# Altium footprint library Common.PcbLib: 60 footprints (part 1 of 4)
Each footprint in its own frame and in the unit in brackets; x right, y up, seen from the top. Pads: shape width x height; smd on the part's side, far side on the other; paste and mask are expansions set on the pad; w line width, h text height; cw(c..) or ccw(c..) is an arc to the next point about the centre after c.
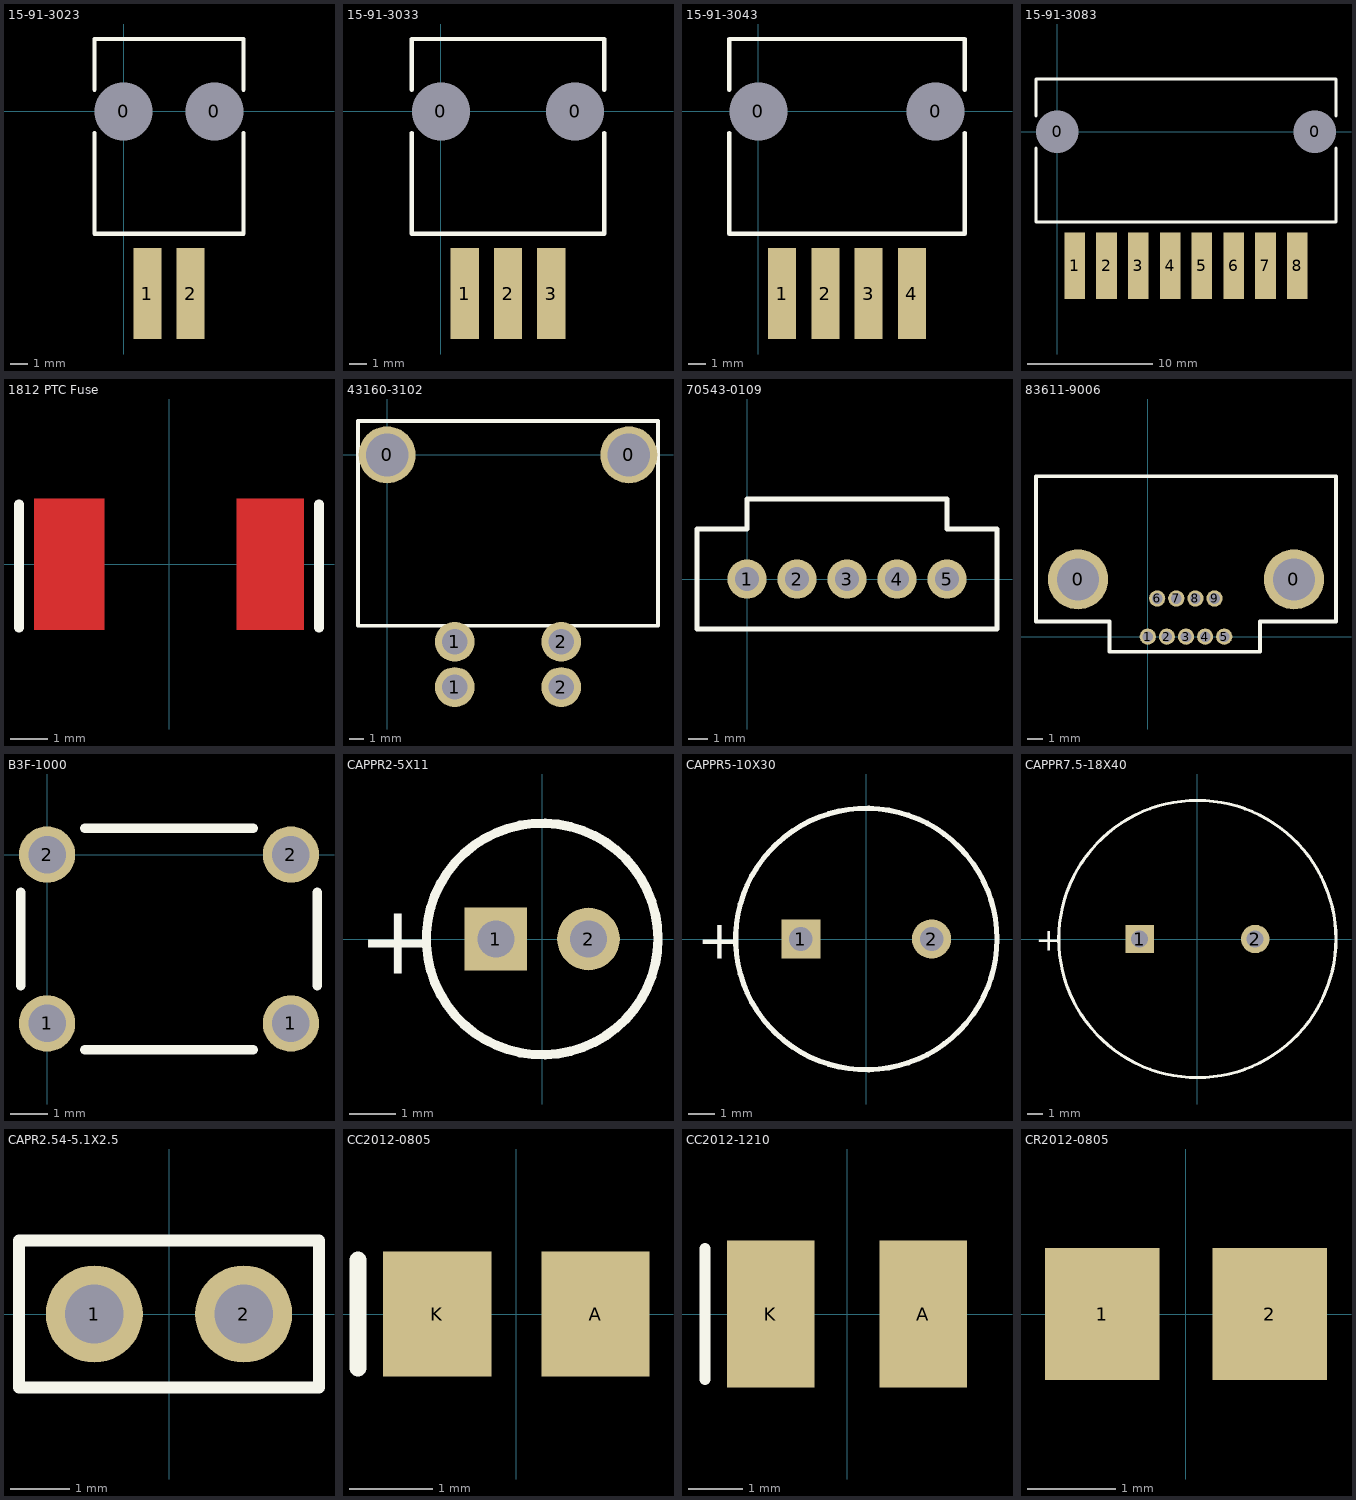
[diagram p0: the footprints below, top view; thin cyan lines are the x and y axes]

## 15-91-3023 [mil]
pads (4):
  round 67 hole 134: 0(0,0) 0(210,0)
  rect 65x210 smd: 1(55,-421) 2(155,-421)
Top Overlay:
  lines w10: -67,-50 -67,-283 277,-283 277,-50 ; -67,50 -67,167 277,167 277,50

## 15-91-3033 [mil]
pads (5):
  round 67 hole 134: 0(0,0) 0(310,0)
  rect 65x210 smd: 1(55,-421) 2(155,-421) 3(255,-421)
Top Overlay:
  lines w10: -67,-50 -67,-283 377,-283 377,-50 ; -67,50 -67,167 377,167 377,50

## 15-91-3043 [mil]
pads (6):
  round 67 hole 134: 0(0,0) 0(410,0)
  rect 65x210 smd: 1(55,-421) 2(155,-421) 3(255,-421) 4(355,-421)
Top Overlay:
  lines w10: -67,-50 -67,-283 477,-283 477,-50 ; -67,50 -67,167 477,167 477,50

## 15-91-3083 [mil]
pads (10):
  round 67 hole 134: 0(0,0) 0(810,0)
  rect 65x210 smd: 1(55,-421) 2(155,-421) 3(255,-421) 4(355,-421) 5(455,-421) 6(555,-421) 7(655,-421) 8(755,-421)
Top Overlay:
  lines w10: -67,-50 -67,-283 877,-283 877,-50 ; -67,50 -67,167 877,167 877,50

## 1812 PTC Fuse [mm] "1812 1.1A Hold, 1.95A Trip Bel Fuse"
height 1
Top Layer:
  rectangle: 1.8,-1.75 3.6,1.75
  rectangle: -3.6,-1.75 -1.725,1.75
Top Overlay:
  lines w0.254: -4,-1.7 -4,1.6 ; 4,-1.7 4,1.6
Top Solder:
  rectangle: 1.75,-1.78 3.64,1.79
  rectangle: -3.64,-1.78 -1.7,1.79

## 43160-3102 [mm]
pads (6):
  round 4 hole 3: 0(0,0) 0(16.99,0)
  round 2.8 hole 1.78: 1(4.75,-16.31) 1(4.75,-13.13) 2(12.24,-16.31) 2(12.24,-13.13)
Top Overlay:
  lines w0.254: -2.045,-12 -2.045,2.38 19.035,2.38 19.035,-12 -2.045,-12

## 70543-0109 [mm]
pads (5):
  round 2 hole 1.2: 1(0,0) 2(2.54,0) 3(5.08,0) 4(7.62,0) 5(10.16,0)
Top Overlay:
  lines w0.254: -2.54,-2.54 12.7,-2.54 12.7,2.54 10.16,2.54 10.16,4.07 0,4.07 0,2.54 -2.54,2.54 -2.54,-2.54

## 83611-9006 [mm] "Molex Commercial D-Sub 9 Pin"
pads (11):
  round 4 hole 2.79: 0(-4.635,3.81) 0(9.715,3.81)
  round 1.08 hole 0.71: 1(0,0) 2(1.27,0) 3(2.54,0) 4(3.81,0) 5(5.08,0) 6(0.625,2.54) 7(1.895,2.54) 8(3.165,2.54) 9(4.435,2.54)
Top Overlay:
  lines w0.254: -7.43,1 -2.54,1 -2.54,-1 7.46,-1 7.46,1 12.51,1 12.51,10.66 -7.43,10.66 -7.43,1

## B3F-1000 [mm]
pads (4):
  round 1.5 hole 1: 1(0,-4.5) 1(6.5,-4.5) 2(0,0) 2(6.5,0)
Top Overlay:
  lines w0.254: -0.7,-3.5 -0.7,-1 ; 1,-5.2 5.5,-5.2 ; 1,0.7 5.5,0.7 ; 7.2,-3.5 7.2,-1

## CAPPR2-5X11 [mm]
pads (2):
  rect 1.35x1.35 hole 0.8: 1(-1,0)
  round 1.35 hole 0.8: 2(1,0)
Top Overlay:
  circle w0.2: c0,0 r2.5
  text "+" at -3.975,-0.75 h1.5

## CAPPR5-10X30 [mm]
pads (2):
  rect 1.5x1.5 hole 0.9: 1(-2.5,0)
  round 1.5 hole 0.9: 2(2.5,0)
Top Overlay:
  circle w0.2: c0,0 r5
  text "+" at -6.475,-0.75 h1.5

## CAPPR7.5-18X40 [mm]
pads (2):
  rect 1.85x1.85 hole 1.1: 1(-3.75,0)
  round 1.85 hole 1.1: 2(3.75,0)
Top Overlay:
  circle w0.2: c0,0 r9
  text "+" at -10.475,-0.75 h1.5

## CAPR2.54-5.1X2.5 [mm]
pads (2):
  round 1.65 hole 1: 1(-1.27,0) 2(1.27,0)
Top Overlay:
  lines w0.2: -2.55,-1.25 -2.55,1.25 2.55,1.25 2.55,-1.25 -2.55,-1.25

## CC2012-0805 [mm]
pads (2):
  rect 1.3x1.5 smd: A(0.95,0) K(-0.95,0)
Top Overlay:
  lines w0.2: -1.9,-0.65 -1.9,0.65

## CC2012-1210 [mm]
pads (2):
  rect 1.6x2.7 smd: A(1.4,0) K(-1.4,0)
Top Overlay:
  lines w0.2: -2.6,-1.2 -2.6,1.2

## CR2012-0805 [mm]
pads (2):
  rect 1.3x1.5 smd: 1(-0.95,0) 2(0.95,0)